# EAGLE library part HCTL-1100-44 (library agilent-technologies)
General Purpose Motion Controller provides position and velocity control for DC, DC brushless and stepper motors. Source: http://www.avagotech.com/pc/downloadDocument.do?id=4609
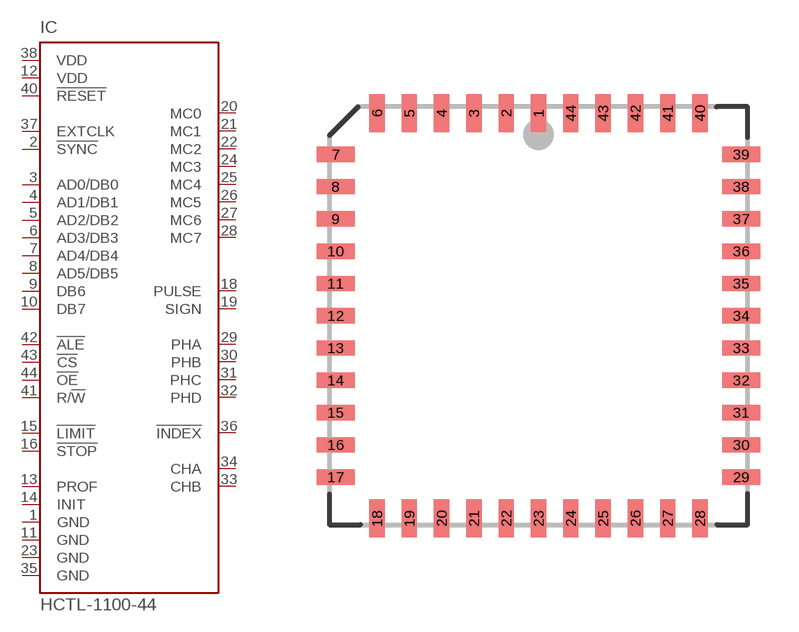
[diagram p1: symbol with the pads of PLCC44; footprint PLCC44]

Designator prefix IC

## HCTL-1100-44 (MF: AGILENT TECHNOLOGIES; MPN: HCTL-1100#PLC; OC_FARNELL: unknown; OC_NEWARK: 17M9299)  [PLCC44]
1  GND  pwr
2  !SYNC  in
3  AD0/DB0
4  AD1/DB1
5  AD2/DB2
6  AD3/DB3
7  AD4/DB4
8  AD5/DB5
9  DB6
10  DB7
11  GND  pwr
12  VDD  pwr
13  PROF  out
14  INIT  out
15  !LIMIT  in
16  !STOP  in
18  PULSE  out
19  SIGN  out
20  MC0  out
21  MC1  out
22  MC2  out
23  GND  pwr
24  MC3  out
25  MC4  out
26  MC5  out
27  MC6  out
28  MC7  out
29  PHA  out
30  PHB  out
31  PHC  out
32  PHD  out
33  CHB  in
34  CHA  in
35  GND  pwr
36  !INDEX  in
37  EXTCLK  in
38  VDD  pwr
40  !RESET  in
41  R/!W  in
42  !ALE  in
43  !CS  in
44  !OE  in

## Footprint PLCC44 (pad centres in mm)
PLASTIC LEADED CHIP CARRIER http://www.avagotech.com/pc/downloadDocument.do?id=4609
smd 0.6 x 1.5: 1 0,7.975; 2 -1.27,7.975; 3 -2.54,7.975; 4 -3.81,7.975; 5 -5.08,7.975; 6 -6.35,7.975; 18 -6.35,-7.975; 19 -5.08,-7.975; 20 -3.81,-7.975; 21 -2.54,-7.975; 22 -1.27,-7.975; 23 0,-7.975; 24 1.27,-7.975; 25 2.54,-7.975; 26 3.81,-7.975; 27 5.08,-7.975; 28 6.35,-7.975; 40 6.35,7.975; 41 5.08,7.975; 42 3.81,7.975; 43 2.54,7.975; 44 1.27,7.975
smd 1.5 x 0.6: 7 -7.975,6.35; 8 -7.975,5.08; 9 -7.975,3.81; 10 -7.975,2.54; 11 -7.975,1.27; 12 -7.975,0; 13 -7.975,-1.27; 14 -7.975,-2.54; 15 -7.975,-3.81; 16 -7.975,-5.08; 17 -7.975,-6.35; 29 7.975,-6.35; 30 7.975,-5.08; 31 7.975,-3.81; 32 7.975,-2.54; 33 7.975,-1.27; 34 7.975,0; 35 7.975,1.27; 36 7.975,2.54; 37 7.975,3.81; 38 7.975,5.08; 39 7.975,6.35